# EAGLE library part MOTOR-CONTROLLER (library custom)
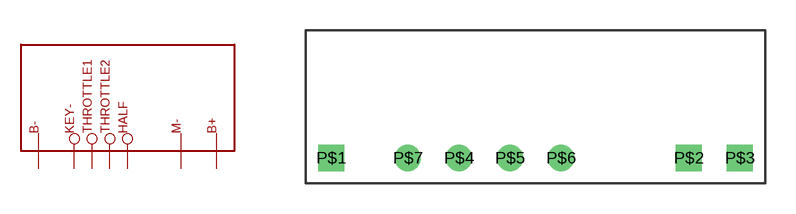
[diagram p2: symbol with the pads of MOTOR-CONTROLLER; footprint MOTOR-CONTROLLER]

Designator prefix -

## MOTOR-CONTROLLER  [MOTOR-CONTROLLER]
P$1  B-
P$2  B+
P$3  M-
P$4  KEY-
P$5  THROTTLE1
P$6  THROTTLE2
P$7  HALF

## Footprint MOTOR-CONTROLLER (pad centres in mm)
drill 0.8 square: P$1 -10.16,-2.54; P$2 7.62,-2.54; P$3 10.16,-2.54
drill 0.8: P$4 -3.81,-2.54; P$5 -1.27,-2.54; P$6 1.27,-2.54; P$7 -6.35,-2.54